# Altium integrated library Analog Devices Data Converters Analog-to-Digital Converters.IntLib: 2404 symbols (part 175 of 346)
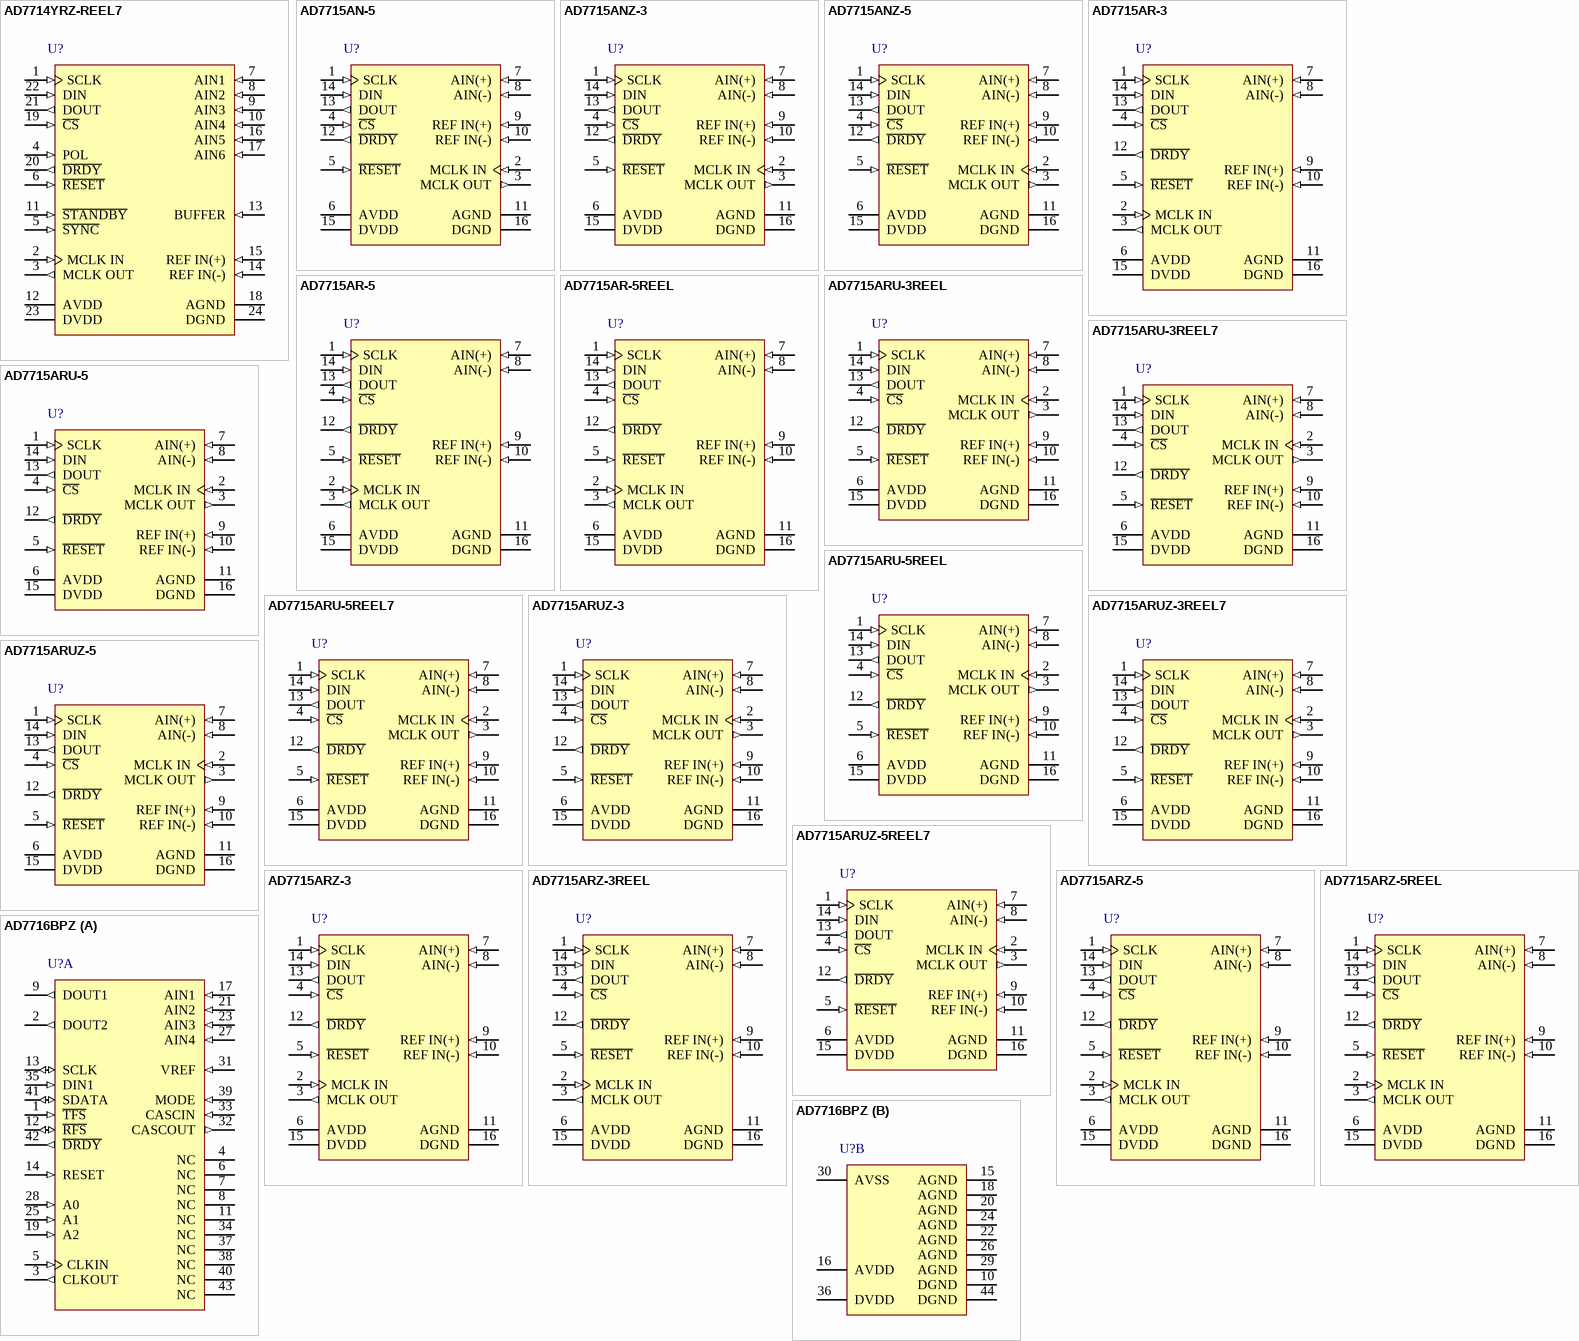
[diagram p250: symbols AD7714YRZ-REEL7 to AD7716BPZ]

## AD7715AR-5
designator U?
Single 16-Bit Sigma-Delta Analog-to-Digital Converter with Serial, SPI Interface, 450 uA, 5 V, 500SPS, -40 to +85 degC, RW-16, Tube; Generic Part Number: AD7715; Manufacturer: Analog Devices; PartNumber: AD7715AR-5; Resolution (Bits): 16; Channels: 1; Throughput Rate (SPS): 500; Interface: Ser, SPI; DatasheetVersion: Rev.D; PackageVersion: 032707-B; PackageReference: RW-16; PackageDescription: 16-Lead Standard Small Outline Package [SOIC_W]; Supplier 1: Digi-Key; Supplier Part Number 1: AD7715AR-5-ND; Supplier 2: Newark; Supplier Part Number 2: 52F2120; Supplier 3: Mouser; Supplier Part Number 3: 584-AD7715AR-5; RoHS: N; Packing: Tube; Mounting Technology: Surface Mount; Code_JEDEC: MS-013-AA; Code_IPC: SOIC127P1030-16; ComponentLink1Description: Manufacturer URL; ComponentLink1URL: http://www.analog.com/en/index.html; ComponentLink2Description: Datasheet; ComponentLink2URL: http://www.analog.com/static/imported-files/data_sheets/AD7715.pdf; ComponentLink3Description: Package Specification; ComponentLink3URL: http://www.analog.com/static/imported-files/packages/PKG_PDF/SOIC_WIDE%20%28RW%29/RW_16.pdf; ComponentLink4Description: Product URL; ComponentLink4URL: http://www.analog.com/en/analog-to-digital-converters/ad-converters/ad7715/products/product.html
footprint RW-16_N (SOIC, 16-Leads, Body 10.3x7.5mm, Pitch 1.27mm, IPC Medium Density)
footprint RW-16_L (SOIC, 16-Leads, Body 10.3x7.5mm, Pitch 1.27mm, IPC High Density)
footprint RW-16_M (SOIC, 16-Leads, Body 10.3x7.5mm, Pitch 1.27mm, IPC Low Density)
pins: 1 SCLK (in) "Serial Clock. Logic input. An external serial clock is applied to this input to access serial data from the AD7715. This serial clock can be a continuous clock with all data transmitted in a continuous train of pulses. (See Datasheet)", 2 MCLK IN (in) "Master Clock Signal for the Device. This can be provided in the form of a crystal/resonator or external clock. A crystal/resonator can be tied across the MCLK IN and MCLK OUT pins. Alternatively, the MCLK IN pin can be (See Datasheet)", 3 MCLK OUT (out) "When the master clock for the device is a crystal/resonator, the crystal/resonator is connected between MCLK IN and MCLK OUT. If an external clock is applied to MCLK IN, MCLK OUT provides an inverted clock signal. This clock (See Datasheet)", 4 ~{CS} (in) "Chip Select. Active low logic input used to select the AD7715. With this input hardwired low, the AD7715 can operate in its three-wire interface mode with SCLK, DIN, and DOUT used to interface to the device. C\S\ can be used (See Datasheet)", 5 ~{RESET} (in) "Logic Input. Active low input which resets the control logic, interface logic, calibration coefficients, digital filter, and analog modulator of the part to power-on status.", 6 AVDD (power) "Analog Positive Supply Voltage, 3.3 V nominal (AD7715-3) or 5 V nominal (AD7715-5).", 7 AIN(+) (in) "Analog Input. Positive input of the programmable gain differential analog input to the AD7715.", 8 AIN(-) (in) "Analog Input. Negative input of the programmable gain differential analog input to the AD7715.", 9 REF IN(+) (in) "Reference Input. Positive input of the differential reference input to the AD7715. The reference input is differential with the provision that REF IN(+) must be greater than REF IN(-). REF IN(+) can lie anywhere between AVDD (See Datasheet)", 10 REF IN(-) (in) "Reference Input. Negative input of the differential reference input to the AD7715. The REF IN(-) can lie anywhere between AVDD and AGND provided REF IN(+) is greater than REF IN(-).", 11 AGND (power) "Ground Reference Point for Analog Circuitry. For correct operation of the AD7715, no voltage on any of the other pins should go more than 30 mV negative with respect to AGND.", 12 ~{DRDY} (out) "Logic Output. A logic low on this output indicates that a new output word is available from the AD7715 data register. The D\R\D\Y\ pin returns high upon completion of a read operation of a full output word. If no data read (See Datasheet)", 13 DOUT (out) "Serial data output with serial data being read from the output shift register on the part. This output shift register can contain information from the setup register, communications register or data register depending on the (See Datasheet)", 14 DIN (in) "Serial data input with serial data being written to the input shift register on the part. Data from this input shift register is transferred to the setup register or communications register depending on the register (See Datasheet)", 15 DVDD (power) "Digital Supply Voltage, 3.3 V or 5 V nominal.", 16 DGND (power) "Ground reference point for digital circuitry."

## AD7715AR-5REEL
designator U?
Single 16-Bit Sigma-Delta Analog-to-Digital Converter with Serial, SPI Interface, 450 uA, 5 V, 500SPS, -40 to +85 degC, RW-16, Reel; Generic Part Number: AD7715; Manufacturer: Analog Devices; PartNumber: AD7715AR-5REEL; Resolution (Bits): 16; Channels: 1; Throughput Rate (SPS): 500; Interface: Ser, SPI; DatasheetVersion: Rev.D; PackageVersion: 032707-B; PackageReference: RW-16; PackageDescription: 16-Lead Standard Small Outline Package [SOIC_W]; Supplier 1: Digi-Key; Supplier Part Number 1: AD7715AR-5REELTR-ND; Supplier 2: Digi-Key; Supplier Part Number 2: AD7715AR-5REELCT-ND; Supplier 3: Digi-Key; Supplier Part Number 3: AD7715AR-5REELDKR-ND; Supplier 4: Newark; Supplier Part Number 4: 09B5912; Supplier 5: Mouser; Supplier Part Number 5: 584-AD7715AR-5R; RoHS: N; Packing: Reel; Mounting Technology: Surface Mount; Code_JEDEC: MS-013-AA; Code_IPC: SOIC127P1030-16; ComponentLink1Description: Manufacturer URL; ComponentLink1URL: http://www.analog.com/en/index.html; ComponentLink2Description: Datasheet; ComponentLink2URL: http://www.analog.com/static/imported-files/data_sheets/AD7715.pdf; ComponentLink3Description: Package Specification; ComponentLink3URL: http://www.analog.com/static/imported-files/packages/PKG_PDF/SOIC_WIDE%20%28RW%29/RW_16.pdf; ComponentLink4Description: Product URL; ComponentLink4URL: http://www.analog.com/en/analog-to-digital-converters/ad-converters/ad7715/products/product.html
footprint RW-16_N (SOIC, 16-Leads, Body 10.3x7.5mm, Pitch 1.27mm, IPC Medium Density)
footprint RW-16_L (SOIC, 16-Leads, Body 10.3x7.5mm, Pitch 1.27mm, IPC High Density)
footprint RW-16_M (SOIC, 16-Leads, Body 10.3x7.5mm, Pitch 1.27mm, IPC Low Density)
pins: 1 SCLK (in) "Serial Clock. Logic input. An external serial clock is applied to this input to access serial data from the AD7715. This serial clock can be a continuous clock with all data transmitted in a continuous train of pulses. (See Datasheet)", 2 MCLK IN (in) "Master Clock Signal for the Device. This can be provided in the form of a crystal/resonator or external clock. A crystal/resonator can be tied across the MCLK IN and MCLK OUT pins. Alternatively, the MCLK IN pin can be (See Datasheet)", 3 MCLK OUT (out) "When the master clock for the device is a crystal/resonator, the crystal/resonator is connected between MCLK IN and MCLK OUT. If an external clock is applied to MCLK IN, MCLK OUT provides an inverted clock signal. This clock (See Datasheet)", 4 ~{CS} (in) "Chip Select. Active low logic input used to select the AD7715. With this input hardwired low, the AD7715 can operate in its three-wire interface mode with SCLK, DIN, and DOUT used to interface to the device. C\S\ can be used (See Datasheet)", 5 ~{RESET} (in) "Logic Input. Active low input which resets the control logic, interface logic, calibration coefficients, digital filter, and analog modulator of the part to power-on status.", 6 AVDD (power) "Analog Positive Supply Voltage, 3.3 V nominal (AD7715-3) or 5 V nominal (AD7715-5).", 7 AIN(+) (in) "Analog Input. Positive input of the programmable gain differential analog input to the AD7715.", 8 AIN(-) (in) "Analog Input. Negative input of the programmable gain differential analog input to the AD7715.", 9 REF IN(+) (in) "Reference Input. Positive input of the differential reference input to the AD7715. The reference input is differential with the provision that REF IN(+) must be greater than REF IN(-). REF IN(+) can lie anywhere between AVDD (See Datasheet)", 10 REF IN(-) (in) "Reference Input. Negative input of the differential reference input to the AD7715. The REF IN(-) can lie anywhere between AVDD and AGND provided REF IN(+) is greater than REF IN(-).", 11 AGND (power) "Ground Reference Point for Analog Circuitry. For correct operation of the AD7715, no voltage on any of the other pins should go more than 30 mV negative with respect to AGND.", 12 ~{DRDY} (out) "Logic Output. A logic low on this output indicates that a new output word is available from the AD7715 data register. The D\R\D\Y\ pin returns high upon completion of a read operation of a full output word. If no data read (See Datasheet)", 13 DOUT (out) "Serial data output with serial data being read from the output shift register on the part. This output shift register can contain information from the setup register, communications register or data register depending on the (See Datasheet)", 14 DIN (in) "Serial data input with serial data being written to the input shift register on the part. Data from this input shift register is transferred to the setup register or communications register depending on the register (See Datasheet)", 15 DVDD (power) "Digital Supply Voltage, 3.3 V or 5 V nominal.", 16 DGND (power) "Ground reference point for digital circuitry."

## AD7715ARU-3REEL
designator U?
Single 16-Bit Sigma-Delta Analog-to-Digital Converter with Serial, SPI Interface, 450 uA, 3 V, 500SPS, -40 to +85 degC, RU-16, Reel; Generic Part Number: AD7715; Manufacturer: Analog Devices; PartNumber: AD7715ARU-3REEL; Resolution (Bits): 16; Channels: 1; Throughput Rate (SPS): 500; Interface: Ser, SPI; DatasheetVersion: Rev.D; PackageVersion: Nov-2002; PackageReference: RU-16; PackageDescription: 16-Lead Thin Shrink Small Outline Package [TSSOP]; Supplier 1: Digi-Key; Supplier Part Number 1: AD7715ARU-3REELTR-ND; Supplier 2: Digi-Key; Supplier Part Number 2: AD7715ARU-3REELCT-ND; Supplier 3: Digi-Key; Supplier Part Number 3: AD7715ARU-3REELDKR-ND; Supplier 4: Newark; Supplier Part Number 4: 09B5914; Supplier 5: Mouser; Supplier Part Number 5: 584-AD7715ARU-3R; RoHS: N; Packing: Reel; Mounting Technology: Surface Mount; Code_JEDEC: MO-153-AB; ComponentLink1Description: Manufacturer URL; ComponentLink1URL: http://www.analog.com/en/index.html; ComponentLink2Description: Datasheet; ComponentLink2URL: http://www.analog.com/static/imported-files/data_sheets/AD7715.pdf; ComponentLink3Description: Package Specification; ComponentLink3URL: http://www.analog.com/static/imported-files/packages/36244347913743854010197452789RU16.pdf; ComponentLink4Description: Product URL; ComponentLink4URL: http://www.analog.com/en/analog-to-digital-converters/ad-converters/ad7715/products/product.html
footprint RU-16_N (TSOP, 16-Leads, Body 5x4.4mm, Pitch 0.65mm, IPC Medium Density)
footprint RU-16_L (TSOP, 16-Leads, Body 5x4.4mm, Pitch 0.65mm, IPC High Density)
footprint RU-16_M (TSOP, 16-Leads, Body 5x4.4mm, Pitch 0.65mm, IPC Low Density)
pins: 1 SCLK (in) "Serial Clock. Logic input. An external serial clock is applied to this input to access serial data from the AD7715. This serial clock can be a continuous clock with all data transmitted in a continuous train of pulses. (See Datasheet)", 2 MCLK IN (in) "Master Clock Signal for the Device. This can be provided in the form of a crystal/resonator or external clock. A crystal/resonator can be tied across the MCLK IN and MCLK OUT pins. Alternatively, the MCLK IN pin can be (See Datasheet)", 3 MCLK OUT (out) "When the master clock for the device is a crystal/resonator, the crystal/resonator is connected between MCLK IN and MCLK OUT. If an external clock is applied to MCLK IN, MCLK OUT provides an inverted clock signal. This clock (See Datasheet)", 4 ~{CS} (in) "Chip Select. Active low logic input used to select the AD7715. With this input hardwired low, the AD7715 can operate in its three-wire interface mode with SCLK, DIN, and DOUT used to interface to the device. C\S\ can be used (See Datasheet)", 5 ~{RESET} (in) "Logic Input. Active low input which resets the control logic, interface logic, calibration coefficients, digital filter, and analog modulator of the part to power-on status.", 6 AVDD (power) "Analog Positive Supply Voltage, 3.3 V nominal (AD7715-3) or 5 V nominal (AD7715-5).", 7 AIN(+) (in) "Analog Input. Positive input of the programmable gain differential analog input to the AD7715.", 8 AIN(-) (in) "Analog Input. Negative input of the programmable gain differential analog input to the AD7715.", 9 REF IN(+) (in) "Reference Input. Positive input of the differential reference input to the AD7715. The reference input is differential with the provision that REF IN(+) must be greater than REF IN(-). REF IN(+) can lie anywhere between AVDD (See Datasheet)", 10 REF IN(-) (in) "Reference Input. Negative input of the differential reference input to the AD7715. The REF IN(-) can lie anywhere between AVDD and AGND provided REF IN(+) is greater than REF IN(-).", 11 AGND (power) "Ground Reference Point for Analog Circuitry. For correct operation of the AD7715, no voltage on any of the other pins should go more than 30 mV negative with respect to AGND.", 12 ~{DRDY} (out) "Logic Output. A logic low on this output indicates that a new output word is available from the AD7715 data register. The D\R\D\Y\ pin returns high upon completion of a read operation of a full output word. If no data read (See Datasheet)", 13 DOUT (out) "Serial data output with serial data being read from the output shift register on the part. This output shift register can contain information from the setup register, communications register or data register depending on the (See Datasheet)", 14 DIN (in) "Serial data input with serial data being written to the input shift register on the part. Data from this input shift register is transferred to the setup register or communications register depending on the register (See Datasheet)", 15 DVDD (power) "Digital Supply Voltage, 3.3 V or 5 V nominal.", 16 DGND (power) "Ground reference point for digital circuitry."

## AD7715ARU-3REEL7
designator U?
Single 16-Bit Sigma-Delta Analog-to-Digital Converter with Serial, SPI Interface, 450 uA, 3 V, 500SPS, -40 to +85 degC, RU-16, Reel; Generic Part Number: AD7715; Manufacturer: Analog Devices; PartNumber: AD7715ARU-3REEL7; Resolution (Bits): 16; Channels: 1; Throughput Rate (SPS): 500; Interface: Ser, SPI; DatasheetVersion: Rev.D; PackageVersion: Nov-2002; PackageReference: RU-16; PackageDescription: 16-Lead Thin Shrink Small Outline Package [TSSOP]; Supplier 1: Digi-Key; Supplier Part Number 1: AD7715ARU-3REEL7TR-ND; Supplier 2: Digi-Key; Supplier Part Number 2: AD7715ARU-3REEL7CT-ND; Supplier 3: Digi-Key; Supplier Part Number 3: AD7715ARU-3REEL7DKR-ND; Supplier 4: Mouser; Supplier Part Number 4: 584-AD7715ARU-3R7; RoHS: N; Packing: Reel; Mounting Technology: Surface Mount; Code_JEDEC: MO-153-AB; ComponentLink1Description: Manufacturer URL; ComponentLink1URL: http://www.analog.com/en/index.html; ComponentLink2Description: Datasheet; ComponentLink2URL: http://www.analog.com/static/imported-files/data_sheets/AD7715.pdf; ComponentLink3Description: Package Specification; ComponentLink3URL: http://www.analog.com/static/imported-files/packages/36244347913743854010197452789RU16.pdf; ComponentLink4Description: Product URL; ComponentLink4URL: http://www.analog.com/en/analog-to-digital-converters/ad-converters/ad7715/products/product.html
footprint RU-16_N (TSOP, 16-Leads, Body 5x4.4mm, Pitch 0.65mm, IPC Medium Density)
footprint RU-16_L (TSOP, 16-Leads, Body 5x4.4mm, Pitch 0.65mm, IPC High Density)
footprint RU-16_M (TSOP, 16-Leads, Body 5x4.4mm, Pitch 0.65mm, IPC Low Density)
pins: 1 SCLK (in) "Serial Clock. Logic input. An external serial clock is applied to this input to access serial data from the AD7715. This serial clock can be a continuous clock with all data transmitted in a continuous train of pulses. (See Datasheet)", 2 MCLK IN (in) "Master Clock Signal for the Device. This can be provided in the form of a crystal/resonator or external clock. A crystal/resonator can be tied across the MCLK IN and MCLK OUT pins. Alternatively, the MCLK IN pin can be (See Datasheet)", 3 MCLK OUT (out) "When the master clock for the device is a crystal/resonator, the crystal/resonator is connected between MCLK IN and MCLK OUT. If an external clock is applied to MCLK IN, MCLK OUT provides an inverted clock signal. This clock (See Datasheet)", 4 ~{CS} (in) "Chip Select. Active low logic input used to select the AD7715. With this input hardwired low, the AD7715 can operate in its three-wire interface mode with SCLK, DIN, and DOUT used to interface to the device. C\S\ can be used (See Datasheet)", 5 ~{RESET} (in) "Logic Input. Active low input which resets the control logic, interface logic, calibration coefficients, digital filter, and analog modulator of the part to power-on status.", 6 AVDD (power) "Analog Positive Supply Voltage, 3.3 V nominal (AD7715-3) or 5 V nominal (AD7715-5).", 7 AIN(+) (in) "Analog Input. Positive input of the programmable gain differential analog input to the AD7715.", 8 AIN(-) (in) "Analog Input. Negative input of the programmable gain differential analog input to the AD7715.", 9 REF IN(+) (in) "Reference Input. Positive input of the differential reference input to the AD7715. The reference input is differential with the provision that REF IN(+) must be greater than REF IN(-). REF IN(+) can lie anywhere between AVDD (See Datasheet)", 10 REF IN(-) (in) "Reference Input. Negative input of the differential reference input to the AD7715. The REF IN(-) can lie anywhere between AVDD and AGND provided REF IN(+) is greater than REF IN(-).", 11 AGND (power) "Ground Reference Point for Analog Circuitry. For correct operation of the AD7715, no voltage on any of the other pins should go more than 30 mV negative with respect to AGND.", 12 ~{DRDY} (out) "Logic Output. A logic low on this output indicates that a new output word is available from the AD7715 data register. The D\R\D\Y\ pin returns high upon completion of a read operation of a full output word. If no data read (See Datasheet)", 13 DOUT (out) "Serial data output with serial data being read from the output shift register on the part. This output shift register can contain information from the setup register, communications register or data register depending on the (See Datasheet)", 14 DIN (in) "Serial data input with serial data being written to the input shift register on the part. Data from this input shift register is transferred to the setup register or communications register depending on the register (See Datasheet)", 15 DVDD (power) "Digital Supply Voltage, 3.3 V or 5 V nominal.", 16 DGND (power) "Ground reference point for digital circuitry."

## AD7715ARU-5
designator U?
Single 16-Bit Sigma-Delta Analog-to-Digital Converter with Serial, SPI Interface, 450 uA, 5 V, 500SPS, -40 to +85 degC, RU-16, Tube; Generic Part Number: AD7715; Manufacturer: Analog Devices; PartNumber: AD7715ARU-5; Resolution (Bits): 16; Channels: 1; Throughput Rate (SPS): 500; Interface: Ser, SPI; DatasheetVersion: Rev.D; PackageVersion: Nov-2002; PackageReference: RU-16; PackageDescription: 16-Lead Thin Shrink Small Outline Package [TSSOP]; Supplier 1: Digi-Key; Supplier Part Number 1: AD7715ARU-5-ND; Supplier 2: Newark; Supplier Part Number 2: 09B5916; Supplier 3: Mouser; Supplier Part Number 3: 584-AD7715ARU-5; RoHS: N; Packing: Tube; Mounting Technology: Surface Mount; Code_JEDEC: MO-153-AB; ComponentLink1Description: Manufacturer URL; ComponentLink1URL: http://www.analog.com/en/index.html; ComponentLink2Description: Datasheet; ComponentLink2URL: http://www.analog.com/static/imported-files/data_sheets/AD7715.pdf; ComponentLink3Description: Package Specification; ComponentLink3URL: http://www.analog.com/static/imported-files/packages/36244347913743854010197452789RU16.pdf; ComponentLink4Description: Product URL; ComponentLink4URL: http://www.analog.com/en/analog-to-digital-converters/ad-converters/ad7715/products/product.html
footprint RU-16_N (TSOP, 16-Leads, Body 5x4.4mm, Pitch 0.65mm, IPC Medium Density)
footprint RU-16_L (TSOP, 16-Leads, Body 5x4.4mm, Pitch 0.65mm, IPC High Density)
footprint RU-16_M (TSOP, 16-Leads, Body 5x4.4mm, Pitch 0.65mm, IPC Low Density)
pins: 1 SCLK (in) "Serial Clock. Logic input. An external serial clock is applied to this input to access serial data from the AD7715. This serial clock can be a continuous clock with all data transmitted in a continuous train of pulses. (See Datasheet)", 2 MCLK IN (in) "Master Clock Signal for the Device. This can be provided in the form of a crystal/resonator or external clock. A crystal/resonator can be tied across the MCLK IN and MCLK OUT pins. Alternatively, the MCLK IN pin can be (See Datasheet)", 3 MCLK OUT (out) "When the master clock for the device is a crystal/resonator, the crystal/resonator is connected between MCLK IN and MCLK OUT. If an external clock is applied to MCLK IN, MCLK OUT provides an inverted clock signal. This clock (See Datasheet)", 4 ~{CS} (in) "Chip Select. Active low logic input used to select the AD7715. With this input hardwired low, the AD7715 can operate in its three-wire interface mode with SCLK, DIN, and DOUT used to interface to the device. C\S\ can be used (See Datasheet)", 5 ~{RESET} (in) "Logic Input. Active low input which resets the control logic, interface logic, calibration coefficients, digital filter, and analog modulator of the part to power-on status.", 6 AVDD (power) "Analog Positive Supply Voltage, 3.3 V nominal (AD7715-3) or 5 V nominal (AD7715-5).", 7 AIN(+) (in) "Analog Input. Positive input of the programmable gain differential analog input to the AD7715.", 8 AIN(-) (in) "Analog Input. Negative input of the programmable gain differential analog input to the AD7715.", 9 REF IN(+) (in) "Reference Input. Positive input of the differential reference input to the AD7715. The reference input is differential with the provision that REF IN(+) must be greater than REF IN(-). REF IN(+) can lie anywhere between AVDD (See Datasheet)", 10 REF IN(-) (in) "Reference Input. Negative input of the differential reference input to the AD7715. The REF IN(-) can lie anywhere between AVDD and AGND provided REF IN(+) is greater than REF IN(-).", 11 AGND (power) "Ground Reference Point for Analog Circuitry. For correct operation of the AD7715, no voltage on any of the other pins should go more than 30 mV negative with respect to AGND.", 12 ~{DRDY} (out) "Logic Output. A logic low on this output indicates that a new output word is available from the AD7715 data register. The D\R\D\Y\ pin returns high upon completion of a read operation of a full output word. If no data read (See Datasheet)", 13 DOUT (out) "Serial data output with serial data being read from the output shift register on the part. This output shift register can contain information from the setup register, communications register or data register depending on the (See Datasheet)", 14 DIN (in) "Serial data input with serial data being written to the input shift register on the part. Data from this input shift register is transferred to the setup register or communications register depending on the register (See Datasheet)", 15 DVDD (power) "Digital Supply Voltage, 3.3 V or 5 V nominal.", 16 DGND (power) "Ground reference point for digital circuitry."

## AD7715ARU-5REEL
designator U?
Single 16-Bit Sigma-Delta Analog-to-Digital Converter with Serial, SPI Interface, 450 uA, 5 V, 500SPS, -40 to +85 degC, RU-16, Reel; Generic Part Number: AD7715; Manufacturer: Analog Devices; PartNumber: AD7715ARU-5REEL; Resolution (Bits): 16; Channels: 1; Throughput Rate (SPS): 500; Interface: Ser, SPI; DatasheetVersion: Rev.D; PackageVersion: Nov-2002; PackageReference: RU-16; PackageDescription: 16-Lead Thin Shrink Small Outline Package [TSSOP]; Supplier 1: Digi-Key; Supplier Part Number 1: AD7715ARU-5REEL-ND; Supplier 2: Mouser; Supplier Part Number 2: 584-AD7715ARU-5R; RoHS: N; Packing: Reel; Mounting Technology: Surface Mount; Code_JEDEC: MO-153-AB; ComponentLink1Description: Manufacturer URL; ComponentLink1URL: http://www.analog.com/en/index.html; ComponentLink2Description: Datasheet; ComponentLink2URL: http://www.analog.com/static/imported-files/data_sheets/AD7715.pdf; ComponentLink3Description: Package Specification; ComponentLink3URL: http://www.analog.com/static/imported-files/packages/36244347913743854010197452789RU16.pdf; ComponentLink4Description: Product URL; ComponentLink4URL: http://www.analog.com/en/analog-to-digital-converters/ad-converters/ad7715/products/product.html
footprint RU-16_N (TSOP, 16-Leads, Body 5x4.4mm, Pitch 0.65mm, IPC Medium Density)
footprint RU-16_L (TSOP, 16-Leads, Body 5x4.4mm, Pitch 0.65mm, IPC High Density)
footprint RU-16_M (TSOP, 16-Leads, Body 5x4.4mm, Pitch 0.65mm, IPC Low Density)
pins: 1 SCLK (in) "Serial Clock. Logic input. An external serial clock is applied to this input to access serial data from the AD7715. This serial clock can be a continuous clock with all data transmitted in a continuous train of pulses. (See Datasheet)", 2 MCLK IN (in) "Master Clock Signal for the Device. This can be provided in the form of a crystal/resonator or external clock. A crystal/resonator can be tied across the MCLK IN and MCLK OUT pins. Alternatively, the MCLK IN pin can be (See Datasheet)", 3 MCLK OUT (out) "When the master clock for the device is a crystal/resonator, the crystal/resonator is connected between MCLK IN and MCLK OUT. If an external clock is applied to MCLK IN, MCLK OUT provides an inverted clock signal. This clock (See Datasheet)", 4 ~{CS} (in) "Chip Select. Active low logic input used to select the AD7715. With this input hardwired low, the AD7715 can operate in its three-wire interface mode with SCLK, DIN, and DOUT used to interface to the device. C\S\ can be used (See Datasheet)", 5 ~{RESET} (in) "Logic Input. Active low input which resets the control logic, interface logic, calibration coefficients, digital filter, and analog modulator of the part to power-on status.", 6 AVDD (power) "Analog Positive Supply Voltage, 3.3 V nominal (AD7715-3) or 5 V nominal (AD7715-5).", 7 AIN(+) (in) "Analog Input. Positive input of the programmable gain differential analog input to the AD7715.", 8 AIN(-) (in) "Analog Input. Negative input of the programmable gain differential analog input to the AD7715.", 9 REF IN(+) (in) "Reference Input. Positive input of the differential reference input to the AD7715. The reference input is differential with the provision that REF IN(+) must be greater than REF IN(-). REF IN(+) can lie anywhere between AVDD (See Datasheet)", 10 REF IN(-) (in) "Reference Input. Negative input of the differential reference input to the AD7715. The REF IN(-) can lie anywhere between AVDD and AGND provided REF IN(+) is greater than REF IN(-).", 11 AGND (power) "Ground Reference Point for Analog Circuitry. For correct operation of the AD7715, no voltage on any of the other pins should go more than 30 mV negative with respect to AGND.", 12 ~{DRDY} (out) "Logic Output. A logic low on this output indicates that a new output word is available from the AD7715 data register. The D\R\D\Y\ pin returns high upon completion of a read operation of a full output word. If no data read (See Datasheet)", 13 DOUT (out) "Serial data output with serial data being read from the output shift register on the part. This output shift register can contain information from the setup register, communications register or data register depending on the (See Datasheet)", 14 DIN (in) "Serial data input with serial data being written to the input shift register on the part. Data from this input shift register is transferred to the setup register or communications register depending on the register (See Datasheet)", 15 DVDD (power) "Digital Supply Voltage, 3.3 V or 5 V nominal.", 16 DGND (power) "Ground reference point for digital circuitry."

## AD7715ARU-5REEL7
designator U?
Single 16-Bit Sigma-Delta Analog-to-Digital Converter with Serial, SPI Interface, 450 uA, 5 V, 500SPS, -40 to +85 degC, RU-16, Reel; Generic Part Number: AD7715; Manufacturer: Analog Devices; PartNumber: AD7715ARU-5REEL7; Resolution (Bits): 16; Channels: 1; Throughput Rate (SPS): 500; Interface: Ser, SPI; DatasheetVersion: Rev.D; PackageVersion: Nov-2002; PackageReference: RU-16; PackageDescription: 16-Lead Thin Shrink Small Outline Package [TSSOP]; RoHS: N; Packing: Reel; Mounting Technology: Surface Mount; Code_JEDEC: MO-153-AB; ComponentLink1Description: Manufacturer URL; ComponentLink1URL: http://www.analog.com/en/index.html; ComponentLink2Description: Datasheet; ComponentLink2URL: http://www.analog.com/static/imported-files/data_sheets/AD7715.pdf; ComponentLink3Description: Package Specification; ComponentLink3URL: http://www.analog.com/static/imported-files/packages/36244347913743854010197452789RU16.pdf; ComponentLink4Description: Product URL; ComponentLink4URL: http://www.analog.com/en/analog-to-digital-converters/ad-converters/ad7715/products/product.html
footprint RU-16_N (TSOP, 16-Leads, Body 5x4.4mm, Pitch 0.65mm, IPC Medium Density)
footprint RU-16_L (TSOP, 16-Leads, Body 5x4.4mm, Pitch 0.65mm, IPC High Density)
footprint RU-16_M (TSOP, 16-Leads, Body 5x4.4mm, Pitch 0.65mm, IPC Low Density)
pins: 1 SCLK (in) "Serial Clock. Logic input. An external serial clock is applied to this input to access serial data from the AD7715. This serial clock can be a continuous clock with all data transmitted in a continuous train of pulses. (See Datasheet)", 2 MCLK IN (in) "Master Clock Signal for the Device. This can be provided in the form of a crystal/resonator or external clock. A crystal/resonator can be tied across the MCLK IN and MCLK OUT pins. Alternatively, the MCLK IN pin can be (See Datasheet)", 3 MCLK OUT (out) "When the master clock for the device is a crystal/resonator, the crystal/resonator is connected between MCLK IN and MCLK OUT. If an external clock is applied to MCLK IN, MCLK OUT provides an inverted clock signal. This clock (See Datasheet)", 4 ~{CS} (in) "Chip Select. Active low logic input used to select the AD7715. With this input hardwired low, the AD7715 can operate in its three-wire interface mode with SCLK, DIN, and DOUT used to interface to the device. C\S\ can be used (See Datasheet)", 5 ~{RESET} (in) "Logic Input. Active low input which resets the control logic, interface logic, calibration coefficients, digital filter, and analog modulator of the part to power-on status.", 6 AVDD (power) "Analog Positive Supply Voltage, 3.3 V nominal (AD7715-3) or 5 V nominal (AD7715-5).", 7 AIN(+) (in) "Analog Input. Positive input of the programmable gain differential analog input to the AD7715.", 8 AIN(-) (in) "Analog Input. Negative input of the programmable gain differential analog input to the AD7715.", 9 REF IN(+) (in) "Reference Input. Positive input of the differential reference input to the AD7715. The reference input is differential with the provision that REF IN(+) must be greater than REF IN(-). REF IN(+) can lie anywhere between AVDD (See Datasheet)", 10 REF IN(-) (in) "Reference Input. Negative input of the differential reference input to the AD7715. The REF IN(-) can lie anywhere between AVDD and AGND provided REF IN(+) is greater than REF IN(-).", 11 AGND (power) "Ground Reference Point for Analog Circuitry. For correct operation of the AD7715, no voltage on any of the other pins should go more than 30 mV negative with respect to AGND.", 12 ~{DRDY} (out) "Logic Output. A logic low on this output indicates that a new output word is available from the AD7715 data register. The D\R\D\Y\ pin returns high upon completion of a read operation of a full output word. If no data read (See Datasheet)", 13 DOUT (out) "Serial data output with serial data being read from the output shift register on the part. This output shift register can contain information from the setup register, communications register or data register depending on the (See Datasheet)", 14 DIN (in) "Serial data input with serial data being written to the input shift register on the part. Data from this input shift register is transferred to the setup register or communications register depending on the register (See Datasheet)", 15 DVDD (power) "Digital Supply Voltage, 3.3 V or 5 V nominal.", 16 DGND (power) "Ground reference point for digital circuitry."

## AD7715ARUZ-3
designator U?
Single 16-Bit Sigma-Delta Analog-to-Digital Converter with Serial, SPI Interface, 450 uA, 3 V, 500SPS, -40 to +85 degC, RU-16, Pb-Free, Tube; Generic Part Number: AD7715; Manufacturer: Analog Devices; PartNumber: AD7715ARUZ-3; Resolution (Bits): 16; Channels: 1; Throughput Rate (SPS): 500; Interface: Ser, SPI; DatasheetVersion: Rev.D; PackageVersion: Nov-2002; PackageReference: RU-16; PackageDescription: 16-Lead Thin Shrink Small Outline Package [TSSOP]; Supplier 1: Digi-Key; Supplier Part Number 1: AD7715ARUZ-3-ND; Supplier 2: Newark; Supplier Part Number 2: 59K5340; Supplier 3: Mouser; Supplier Part Number 3: 584-AD7715ARUZ-3; RoHS: Y; Packing: Tube; Mounting Technology: Surface Mount; Code_JEDEC: MO-153-AB; ComponentLink1Description: Manufacturer URL; ComponentLink1URL: http://www.analog.com/en/index.html; ComponentLink2Description: Datasheet; ComponentLink2URL: http://www.analog.com/static/imported-files/data_sheets/AD7715.pdf; ComponentLink3Description: Package Specification; ComponentLink3URL: http://www.analog.com/static/imported-files/packages/36244347913743854010197452789RU16.pdf; ComponentLink4Description: Product URL; ComponentLink4URL: http://www.analog.com/en/analog-to-digital-converters/ad-converters/ad7715/products/product.html
footprint RU-16_N (TSOP, 16-Leads, Body 5x4.4mm, Pitch 0.65mm, IPC Medium Density)
footprint RU-16_L (TSOP, 16-Leads, Body 5x4.4mm, Pitch 0.65mm, IPC High Density)
footprint RU-16_M (TSOP, 16-Leads, Body 5x4.4mm, Pitch 0.65mm, IPC Low Density)
pins: 1 SCLK (in) "Serial Clock. Logic input. An external serial clock is applied to this input to access serial data from the AD7715. This serial clock can be a continuous clock with all data transmitted in a continuous train of pulses. (See Datasheet)", 2 MCLK IN (in) "Master Clock Signal for the Device. This can be provided in the form of a crystal/resonator or external clock. A crystal/resonator can be tied across the MCLK IN and MCLK OUT pins. Alternatively, the MCLK IN pin can be (See Datasheet)", 3 MCLK OUT (out) "When the master clock for the device is a crystal/resonator, the crystal/resonator is connected between MCLK IN and MCLK OUT. If an external clock is applied to MCLK IN, MCLK OUT provides an inverted clock signal. This clock (See Datasheet)", 4 ~{CS} (in) "Chip Select. Active low logic input used to select the AD7715. With this input hardwired low, the AD7715 can operate in its three-wire interface mode with SCLK, DIN, and DOUT used to interface to the device. C\S\ can be used (See Datasheet)", 5 ~{RESET} (in) "Logic Input. Active low input which resets the control logic, interface logic, calibration coefficients, digital filter, and analog modulator of the part to power-on status.", 6 AVDD (power) "Analog Positive Supply Voltage, 3.3 V nominal (AD7715-3) or 5 V nominal (AD7715-5).", 7 AIN(+) (in) "Analog Input. Positive input of the programmable gain differential analog input to the AD7715.", 8 AIN(-) (in) "Analog Input. Negative input of the programmable gain differential analog input to the AD7715.", 9 REF IN(+) (in) "Reference Input. Positive input of the differential reference input to the AD7715. The reference input is differential with the provision that REF IN(+) must be greater than REF IN(-). REF IN(+) can lie anywhere between AVDD (See Datasheet)", 10 REF IN(-) (in) "Reference Input. Negative input of the differential reference input to the AD7715. The REF IN(-) can lie anywhere between AVDD and AGND provided REF IN(+) is greater than REF IN(-).", 11 AGND (power) "Ground Reference Point for Analog Circuitry. For correct operation of the AD7715, no voltage on any of the other pins should go more than 30 mV negative with respect to AGND.", 12 ~{DRDY} (out) "Logic Output. A logic low on this output indicates that a new output word is available from the AD7715 data register. The D\R\D\Y\ pin returns high upon completion of a read operation of a full output word. If no data read (See Datasheet)", 13 DOUT (out) "Serial data output with serial data being read from the output shift register on the part. This output shift register can contain information from the setup register, communications register or data register depending on the (See Datasheet)", 14 DIN (in) "Serial data input with serial data being written to the input shift register on the part. Data from this input shift register is transferred to the setup register or communications register depending on the register (See Datasheet)", 15 DVDD (power) "Digital Supply Voltage, 3.3 V or 5 V nominal.", 16 DGND (power) "Ground reference point for digital circuitry."

## AD7715ARUZ-3REEL7
designator U?
Single 16-Bit Sigma-Delta Analog-to-Digital Converter with Serial, SPI Interface, 450 uA, 3 V, 500SPS, -40 to +85 degC, RU-16, Pb-Free, Reel; Generic Part Number: AD7715; Manufacturer: Analog Devices; PartNumber: AD7715ARUZ-3REEL7; Resolution (Bits): 16; Channels: 1; Throughput Rate (SPS): 500; Interface: Ser, SPI; DatasheetVersion: Rev.D; PackageVersion: Nov-2002; PackageReference: RU-16; PackageDescription: 16-Lead Thin Shrink Small Outline Package [TSSOP]; Supplier 1: Digi-Key; Supplier Part Number 1: AD7715ARUZ-3REEL7-ND; Supplier 2: Mouser; Supplier Part Number 2: 584-AD7715ARUZ-3R7; RoHS: Y; Packing: Reel; Mounting Technology: Surface Mount; Code_JEDEC: MO-153-AB; ComponentLink1Description: Manufacturer URL; ComponentLink1URL: http://www.analog.com/en/index.html; ComponentLink2Description: Datasheet; ComponentLink2URL: http://www.analog.com/static/imported-files/data_sheets/AD7715.pdf; ComponentLink3Description: Package Specification; ComponentLink3URL: http://www.analog.com/static/imported-files/packages/36244347913743854010197452789RU16.pdf; ComponentLink4Description: Product URL; ComponentLink4URL: http://www.analog.com/en/analog-to-digital-converters/ad-converters/ad7715/products/product.html
footprint RU-16_N (TSOP, 16-Leads, Body 5x4.4mm, Pitch 0.65mm, IPC Medium Density)
footprint RU-16_L (TSOP, 16-Leads, Body 5x4.4mm, Pitch 0.65mm, IPC High Density)
footprint RU-16_M (TSOP, 16-Leads, Body 5x4.4mm, Pitch 0.65mm, IPC Low Density)
pins: 1 SCLK (in) "Serial Clock. Logic input. An external serial clock is applied to this input to access serial data from the AD7715. This serial clock can be a continuous clock with all data transmitted in a continuous train of pulses. (See Datasheet)", 2 MCLK IN (in) "Master Clock Signal for the Device. This can be provided in the form of a crystal/resonator or external clock. A crystal/resonator can be tied across the MCLK IN and MCLK OUT pins. Alternatively, the MCLK IN pin can be (See Datasheet)", 3 MCLK OUT (out) "When the master clock for the device is a crystal/resonator, the crystal/resonator is connected between MCLK IN and MCLK OUT. If an external clock is applied to MCLK IN, MCLK OUT provides an inverted clock signal. This clock (See Datasheet)", 4 ~{CS} (in) "Chip Select. Active low logic input used to select the AD7715. With this input hardwired low, the AD7715 can operate in its three-wire interface mode with SCLK, DIN, and DOUT used to interface to the device. C\S\ can be used (See Datasheet)", 5 ~{RESET} (in) "Logic Input. Active low input which resets the control logic, interface logic, calibration coefficients, digital filter, and analog modulator of the part to power-on status.", 6 AVDD (power) "Analog Positive Supply Voltage, 3.3 V nominal (AD7715-3) or 5 V nominal (AD7715-5).", 7 AIN(+) (in) "Analog Input. Positive input of the programmable gain differential analog input to the AD7715.", 8 AIN(-) (in) "Analog Input. Negative input of the programmable gain differential analog input to the AD7715.", 9 REF IN(+) (in) "Reference Input. Positive input of the differential reference input to the AD7715. The reference input is differential with the provision that REF IN(+) must be greater than REF IN(-). REF IN(+) can lie anywhere between AVDD (See Datasheet)", 10 REF IN(-) (in) "Reference Input. Negative input of the differential reference input to the AD7715. The REF IN(-) can lie anywhere between AVDD and AGND provided REF IN(+) is greater than REF IN(-).", 11 AGND (power) "Ground Reference Point for Analog Circuitry. For correct operation of the AD7715, no voltage on any of the other pins should go more than 30 mV negative with respect to AGND.", 12 ~{DRDY} (out) "Logic Output. A logic low on this output indicates that a new output word is available from the AD7715 data register. The D\R\D\Y\ pin returns high upon completion of a read operation of a full output word. If no data read (See Datasheet)", 13 DOUT (out) "Serial data output with serial data being read from the output shift register on the part. This output shift register can contain information from the setup register, communications register or data register depending on the (See Datasheet)", 14 DIN (in) "Serial data input with serial data being written to the input shift register on the part. Data from this input shift register is transferred to the setup register or communications register depending on the register (See Datasheet)", 15 DVDD (power) "Digital Supply Voltage, 3.3 V or 5 V nominal.", 16 DGND (power) "Ground reference point for digital circuitry."

## AD7715ARUZ-5
designator U?
Single 16-Bit Sigma-Delta Analog-to-Digital Converter with Serial, SPI Interface, 450 uA, 5 V, 500SPS, -40 to +85 degC, RU-16, Pb-Free, Tube; Generic Part Number: AD7715; Manufacturer: Analog Devices; PartNumber: AD7715ARUZ-5; Resolution (Bits): 16; Channels: 1; Throughput Rate (SPS): 500; Interface: Ser, SPI; DatasheetVersion: Rev.D; PackageVersion: Nov-2002; PackageReference: RU-16; PackageDescription: 16-Lead Thin Shrink Small Outline Package [TSSOP]; Supplier 1: Digi-Key; Supplier Part Number 1: AD7715ARUZ-5-ND; Supplier 2: Newark; Supplier Part Number 2: 59K5342; Supplier 3: Mouser; Supplier Part Number 3: 584-AD7715ARUZ-5; RoHS: Y; Packing: Tube; Mounting Technology: Surface Mount; Code_JEDEC: MO-153-AB; ComponentLink1Description: Manufacturer URL; ComponentLink1URL: http://www.analog.com/en/index.html; ComponentLink2Description: Datasheet; ComponentLink2URL: http://www.analog.com/static/imported-files/data_sheets/AD7715.pdf; ComponentLink3Description: Package Specification; ComponentLink3URL: http://www.analog.com/static/imported-files/packages/36244347913743854010197452789RU16.pdf; ComponentLink4Description: Product URL; ComponentLink4URL: http://www.analog.com/en/analog-to-digital-converters/ad-converters/ad7715/products/product.html
footprint RU-16_N (TSOP, 16-Leads, Body 5x4.4mm, Pitch 0.65mm, IPC Medium Density)
footprint RU-16_L (TSOP, 16-Leads, Body 5x4.4mm, Pitch 0.65mm, IPC High Density)
footprint RU-16_M (TSOP, 16-Leads, Body 5x4.4mm, Pitch 0.65mm, IPC Low Density)
pins: 1 SCLK (in) "Serial Clock. Logic input. An external serial clock is applied to this input to access serial data from the AD7715. This serial clock can be a continuous clock with all data transmitted in a continuous train of pulses. (See Datasheet)", 2 MCLK IN (in) "Master Clock Signal for the Device. This can be provided in the form of a crystal/resonator or external clock. A crystal/resonator can be tied across the MCLK IN and MCLK OUT pins. Alternatively, the MCLK IN pin can be (See Datasheet)", 3 MCLK OUT (out) "When the master clock for the device is a crystal/resonator, the crystal/resonator is connected between MCLK IN and MCLK OUT. If an external clock is applied to MCLK IN, MCLK OUT provides an inverted clock signal. This clock (See Datasheet)", 4 ~{CS} (in) "Chip Select. Active low logic input used to select the AD7715. With this input hardwired low, the AD7715 can operate in its three-wire interface mode with SCLK, DIN, and DOUT used to interface to the device. C\S\ can be used (See Datasheet)", 5 ~{RESET} (in) "Logic Input. Active low input which resets the control logic, interface logic, calibration coefficients, digital filter, and analog modulator of the part to power-on status.", 6 AVDD (power) "Analog Positive Supply Voltage, 3.3 V nominal (AD7715-3) or 5 V nominal (AD7715-5).", 7 AIN(+) (in) "Analog Input. Positive input of the programmable gain differential analog input to the AD7715.", 8 AIN(-) (in) "Analog Input. Negative input of the programmable gain differential analog input to the AD7715.", 9 REF IN(+) (in) "Reference Input. Positive input of the differential reference input to the AD7715. The reference input is differential with the provision that REF IN(+) must be greater than REF IN(-). REF IN(+) can lie anywhere between AVDD (See Datasheet)", 10 REF IN(-) (in) "Reference Input. Negative input of the differential reference input to the AD7715. The REF IN(-) can lie anywhere between AVDD and AGND provided REF IN(+) is greater than REF IN(-).", 11 AGND (power) "Ground Reference Point for Analog Circuitry. For correct operation of the AD7715, no voltage on any of the other pins should go more than 30 mV negative with respect to AGND.", 12 ~{DRDY} (out) "Logic Output. A logic low on this output indicates that a new output word is available from the AD7715 data register. The D\R\D\Y\ pin returns high upon completion of a read operation of a full output word. If no data read (See Datasheet)", 13 DOUT (out) "Serial data output with serial data being read from the output shift register on the part. This output shift register can contain information from the setup register, communications register or data register depending on the (See Datasheet)", 14 DIN (in) "Serial data input with serial data being written to the input shift register on the part. Data from this input shift register is transferred to the setup register or communications register depending on the register (See Datasheet)", 15 DVDD (power) "Digital Supply Voltage, 3.3 V or 5 V nominal.", 16 DGND (power) "Ground reference point for digital circuitry."